# Altium integrated library ALTIUM-WE-PD-rev18b.IntLib: 278 symbols (part 2 of 4)
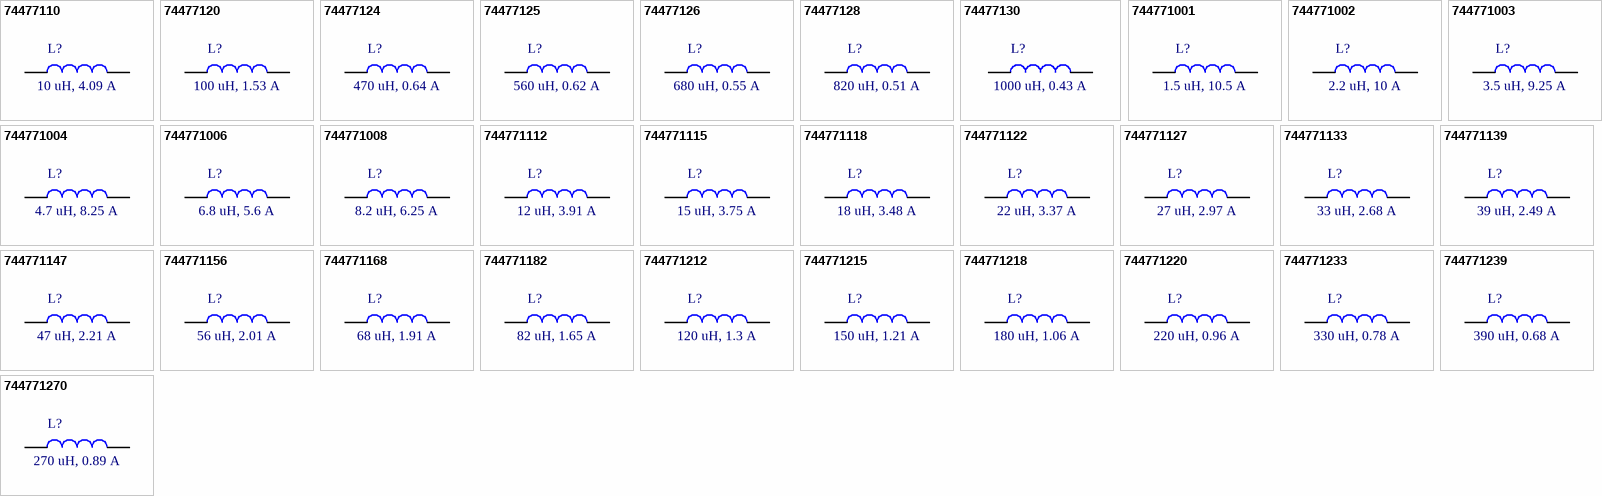
[diagram p14: symbols 74477110 to 744771270]

## 744771133
designator L?, comment 33 uH, 2.68 A
WE-PD SMT Shielded Power Inductor, size 1260, 33 uH, 2.68 A; Part Number: 744771133; Rated Current: 2.68 A; Inductance: 33 uH; DC Resistance max.: 0.057 Ohm; Self Resonant Frequency: 11 MHz; ComponentLink1Description: Manufacturer; ComponentLink1URL: http://www.we-online.de; ComponentLink2Description: Datasheet; ComponentLink2URL: https://katalog.we-online.de/pbs/datasheet/744771133.pdf; Published Date: September 2018; Publisher: Wurth Elektronik; Size: 1260; Operating Temperature: -40 to 125 degC; Mounting Technology: SMT; Packaging: Tape and Reel
footprint WE-PD_1260_Metal base
pins: 1, 2

## 744771139
designator L?, comment 39 uH, 2.49 A
WE-PD SMT Shielded Power Inductor, size 1260, 39 uH, 2.49 A; Part Number: 744771139; Rated Current: 2.49 A; Inductance: 39 uH; DC Resistance max.: 0.068 Ohm; Self Resonant Frequency: 10 MHz; ComponentLink1Description: Manufacturer; ComponentLink1URL: http://www.we-online.de; ComponentLink2Description: Datasheet; ComponentLink2URL: https://katalog.we-online.de/pbs/datasheet/744771139.pdf; Published Date: September 2018; Publisher: Wurth Elektronik; Size: 1260; Operating Temperature: -40 to 125 degC; Mounting Technology: SMT; Packaging: Tape and Reel
footprint WE-PD_1260_Metal base
pins: 1, 2

## 744771147
designator L?, comment 47 uH, 2.21 A
WE-PD SMT Shielded Power Inductor, size 1260, 47 uH, 2.21 A; Part Number: 744771147; Rated Current: 2.21 A; Inductance: 47 uH; DC Resistance max.: 0.075 Ohm; Self Resonant Frequency: 9.2 MHz; ComponentLink1Description: Manufacturer; ComponentLink1URL: http://www.we-online.de; ComponentLink2Description: Datasheet; ComponentLink2URL: https://katalog.we-online.de/pbs/datasheet/744771147.pdf; Published Date: September 2018; Publisher: Wurth Elektronik; Size: 1260; Operating Temperature: -40 to 125 degC; Mounting Technology: SMT; Packaging: Tape and Reel
footprint WE-PD_1260_Metal base
pins: 1, 2

## 744771156
designator L?, comment 56 uH, 2.01 A
WE-PD SMT Shielded Power Inductor, size 1260, 56 uH, 2.01 A; Part Number: 744771156; Rated Current: 2.01 A; Inductance: 56 uH; DC Resistance max.: 0.11 Ohm; Self Resonant Frequency: 8 MHz; ComponentLink1Description: Manufacturer; ComponentLink1URL: http://www.we-online.de; ComponentLink2Description: Datasheet; ComponentLink2URL: https://katalog.we-online.de/pbs/datasheet/744771156.pdf; Published Date: September 2018; Publisher: Wurth Elektronik; Size: 1260; Operating Temperature: -40 to 125 degC; Mounting Technology: SMT; Packaging: Tape and Reel
footprint WE-PD_1260_Metal base
pins: 1, 2

## 744771168
designator L?, comment 68 uH, 1.91 A
WE-PD SMT Shielded Power Inductor, size 1260, 68 uH, 1.91 A; Part Number: 744771168; Rated Current: 1.91 A; Inductance: 68 uH; DC Resistance max.: 0.12 Ohm; Self Resonant Frequency: 7.6 MHz; ComponentLink1Description: Manufacturer; ComponentLink1URL: http://www.we-online.de; ComponentLink2Description: Datasheet; ComponentLink2URL: https://katalog.we-online.de/pbs/datasheet/744771168.pdf; Published Date: September 2018; Publisher: Wurth Elektronik; Size: 1260; Operating Temperature: -40 to 125 degC; Mounting Technology: SMT; Packaging: Tape and Reel
footprint WE-PD_1260_Metal base
pins: 1, 2

## 744771182
designator L?, comment 82 uH, 1.65 A
WE-PD SMT Shielded Power Inductor, size 1260, 82 uH, 1.65 A; Part Number: 744771182; Rated Current: 1.65 A; Inductance: 82 uH; DC Resistance max.: 0.14 Ohm; Self Resonant Frequency: 7.2 MHz; ComponentLink1Description: Manufacturer; ComponentLink1URL: http://www.we-online.de; ComponentLink2Description: Datasheet; ComponentLink2URL: https://katalog.we-online.de/pbs/datasheet/744771182.pdf; Published Date: September 2018; Publisher: Wurth Elektronik; Size: 1260; Operating Temperature: -40 to 125 degC; Mounting Technology: SMT; Packaging: Tape and Reel
footprint WE-PD_1260_Metal base
pins: 1, 2

## 744771212
designator L?, comment 120 uH, 1.3 A
WE-PD SMT Shielded Power Inductor, size 1260, 120 uH, 1.3 A; Part Number: 744771212; Rated Current: 1.3 A; Inductance: 120 uH; DC Resistance max.: 0.17 Ohm; Self Resonant Frequency: 5.2 MHz; ComponentLink1Description: Manufacturer; ComponentLink1URL: http://www.we-online.de; ComponentLink2Description: Datasheet; ComponentLink2URL: https://katalog.we-online.de/pbs/datasheet/744771212.pdf; Published Date: September 2018; Publisher: Wurth Elektronik; Size: 1260; Operating Temperature: -40 to 125 degC; Mounting Technology: SMT; Packaging: Tape and Reel
footprint WE-PD_1260_Metal base
pins: 1, 2

## 744771215
designator L?, comment 150 uH, 1.21 A
WE-PD SMT Shielded Power Inductor, size 1260, 150 uH, 1.21 A; Part Number: 744771215; Rated Current: 1.21 A; Inductance: 150 uH; DC Resistance max.: 0.23 Ohm; Self Resonant Frequency: 4.4 MHz; ComponentLink1Description: Manufacturer; ComponentLink1URL: http://www.we-online.de; ComponentLink2Description: Datasheet; ComponentLink2URL: https://katalog.we-online.de/pbs/datasheet/744771215.pdf; Published Date: September 2018; Publisher: Wurth Elektronik; Size: 1260; Operating Temperature: -40 to 125 degC; Mounting Technology: SMT; Packaging: Tape and Reel
footprint WE-PD_1260_Metal base
pins: 1, 2

## 744771218
designator L?, comment 180 uH, 1.06 A
WE-PD SMT Shielded Power Inductor, size 1260, 180 uH, 1.06 A; Part Number: 744771218; Rated Current: 1.06 A; Inductance: 180 uH; DC Resistance max.: 0.29 Ohm; Self Resonant Frequency: 4.1 MHz; ComponentLink1Description: Manufacturer; ComponentLink1URL: http://www.we-online.de; ComponentLink2Description: Datasheet; ComponentLink2URL: https://katalog.we-online.de/pbs/datasheet/744771218.pdf; Published Date: September 2018; Publisher: Wurth Elektronik; Size: 1260; Operating Temperature: -40 to 125 degC; Mounting Technology: SMT; Packaging: Tape and Reel
footprint WE-PD_1260_Metal base
pins: 1, 2

## 744771220
designator L?, comment 220 uH, 0.96 A
WE-PD SMT Shielded Power Inductor, size 1260, 220 uH, 0.96 A; Part Number: 744771220; Rated Current: 0.96 A; Inductance: 220 uH; DC Resistance max.: 0.4 Ohm; Self Resonant Frequency: 3.8 MHz; ComponentLink1Description: Manufacturer; ComponentLink1URL: http://www.we-online.de; ComponentLink2Description: Datasheet; ComponentLink2URL: https://katalog.we-online.de/pbs/datasheet/744771220.pdf; Published Date: September 2018; Publisher: Wurth Elektronik; Size: 1260; Operating Temperature: -40 to 125 degC; Mounting Technology: SMT; Packaging: Tape and Reel
footprint WE-PD_1260_Metal base
pins: 1, 2

## 744771233
designator L?, comment 330 uH, 0.78 A
WE-PD SMT Shielded Power Inductor, size 1260, 330 uH, 0.78 A; Part Number: 744771233; Rated Current: 0.78 A; Inductance: 330 uH; DC Resistance max.: 0.51 Ohm; Self Resonant Frequency: 3 MHz; ComponentLink1Description: Manufacturer; ComponentLink1URL: http://www.we-online.de; ComponentLink2Description: Datasheet; ComponentLink2URL: https://katalog.we-online.de/pbs/datasheet/744771233.pdf; Published Date: September 2018; Publisher: Wurth Elektronik; Size: 1260; Operating Temperature: -40 to 125 degC; Mounting Technology: SMT; Packaging: Tape and Reel
footprint WE-PD_1260_Metal base
pins: 1, 2

## 744771239
designator L?, comment 390 uH, 0.68 A
WE-PD SMT Shielded Power Inductor, size 1260, 390 uH, 0.68 A; Part Number: 744771239; Rated Current: 0.68 A; Inductance: 390 uH; DC Resistance max.: 0.69 Ohm; Self Resonant Frequency: 2.8 MHz; ComponentLink1Description: Manufacturer; ComponentLink1URL: http://www.we-online.de; ComponentLink2Description: Datasheet; ComponentLink2URL: https://katalog.we-online.de/pbs/datasheet/744771239.pdf; Published Date: September 2018; Publisher: Wurth Elektronik; Size: 1260; Operating Temperature: -40 to 125 degC; Mounting Technology: SMT; Packaging: Tape and Reel
footprint WE-PD_1260_Metal base
pins: 1, 2

## 744771270
designator L?, comment 270 uH, 0.89 A
WE-PD SMT Shielded Power Inductor, size 1260, 270 uH, 0.89 A; Part Number: 744771270; Rated Current: 0.89 A; Inductance: 270 uH; DC Resistance max.: 0.46 Ohm; Self Resonant Frequency: 3.4 MHz; ComponentLink1Description: Manufacturer; ComponentLink1URL: http://www.we-online.de; ComponentLink2Description: Datasheet; ComponentLink2URL: https://katalog.we-online.de/pbs/datasheet/744771270.pdf; Published Date: September 2018; Publisher: Wurth Elektronik; Size: 1260; Operating Temperature: -40 to 125 degC; Mounting Technology: SMT; Packaging: Tape and Reel
footprint WE-PD_1260_Metal base
pins: 1, 2


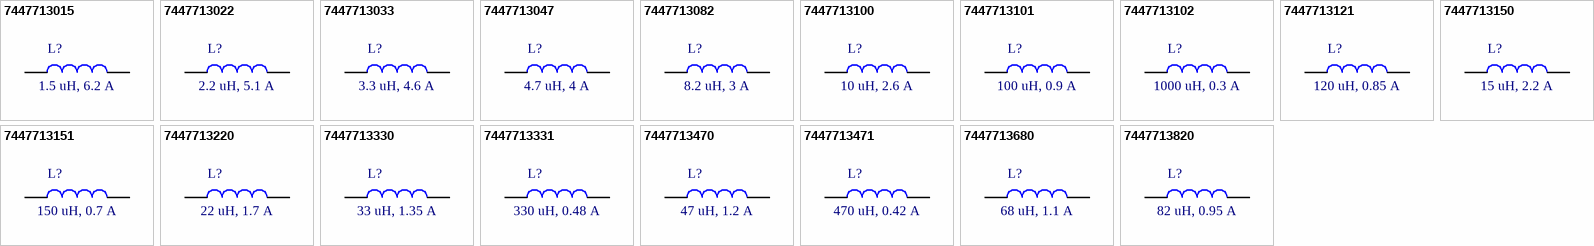
[diagram p4: symbols 7447713015 to 7447713820]

## 7447713015
designator L?, comment 1.5 uH, 6.2 A
WE-PD SMT Shielded Power Inductor, size 1030, 1.5 uH, 6.2 A; Part Number: 7447713015; Rated Current: 6.2 A; Inductance: 1.5 uH; DC Resistance max.: 0.016 Ohm; Self Resonant Frequency: 75 MHz; ComponentLink1Description: Manufacturer; ComponentLink1URL: http://www.we-online.de; ComponentLink2Description: Datasheet; ComponentLink2URL: https://katalog.we-online.de/pbs/datasheet/7447713015.pdf; Published Date: September 2018; Publisher: Wurth Elektronik; Size: 1030; Operating Temperature: -40 to 125 degC; Mounting Technology: SMT; Packaging: Tape and Reel
footprint WE-PD_1030_Metal base
pins: 1, 2

## 7447713022
designator L?, comment 2.2 uH, 5.1 A
WE-PD SMT Shielded Power Inductor, size 1030, 2.2 uH, 5.1 A; Part Number: 7447713022; Rated Current: 5.1 A; Inductance: 2.2 uH; DC Resistance max.: 0.02 Ohm; Self Resonant Frequency: 71 MHz; ComponentLink1Description: Manufacturer; ComponentLink1URL: http://www.we-online.de; ComponentLink2Description: Datasheet; ComponentLink2URL: https://katalog.we-online.de/pbs/datasheet/7447713022.pdf; Published Date: September 2018; Publisher: Wurth Elektronik; Size: 1030; Operating Temperature: -40 to 125 degC; Mounting Technology: SMT; Packaging: Tape and Reel
footprint WE-PD_1030_Metal base
pins: 1, 2

## 7447713033
designator L?, comment 3.3 uH, 4.6 A
WE-PD SMT Shielded Power Inductor, size 1030, 3.3 uH, 4.6 A; Part Number: 7447713033; Rated Current: 4.6 A; Inductance: 3.3 uH; DC Resistance max.: 0.024 Ohm; Self Resonant Frequency: 50 MHz; ComponentLink1Description: Manufacturer; ComponentLink1URL: http://www.we-online.de; ComponentLink2Description: Datasheet; ComponentLink2URL: https://katalog.we-online.de/pbs/datasheet/7447713033.pdf; Published Date: September 2018; Publisher: Wurth Elektronik; Size: 1030; Operating Temperature: -40 to 125 degC; Mounting Technology: SMT; Packaging: Tape and Reel
footprint WE-PD_1030_Metal base
pins: 1, 2

## 7447713047
designator L?, comment 4.7 uH, 4 A
WE-PD SMT Shielded Power Inductor, size 1030, 4.7 uH, 4 A; Part Number: 7447713047; Rated Current: 4 A; Inductance: 4.7 uH; DC Resistance max.: 0.031 Ohm; Self Resonant Frequency: 42 MHz; ComponentLink1Description: Manufacturer; ComponentLink1URL: http://www.we-online.de; ComponentLink2Description: Datasheet; ComponentLink2URL: https://katalog.we-online.de/pbs/datasheet/7447713047.pdf; Published Date: September 2018; Publisher: Wurth Elektronik; Size: 1030; Operating Temperature: -40 to 125 degC; Mounting Technology: SMT; Packaging: Tape and Reel
footprint WE-PD_1030_Metal base
pins: 1, 2

## 7447713082
designator L?, comment 8.2 uH, 3 A
WE-PD SMT Shielded Power Inductor, size 1030, 8.2 uH, 3 A; Part Number: 7447713082; Rated Current: 3 A; Inductance: 8.2 uH; DC Resistance max.: 0.049 Ohm; Self Resonant Frequency: 30 MHz; ComponentLink1Description: Manufacturer; ComponentLink1URL: http://www.we-online.de; ComponentLink2Description: Datasheet; ComponentLink2URL: https://katalog.we-online.de/pbs/datasheet/7447713082.pdf; Published Date: September 2018; Publisher: Wurth Elektronik; Size: 1030; Operating Temperature: -40 to 125 degC; Mounting Technology: SMT; Packaging: Tape and Reel
footprint WE-PD_1030_Metal base
pins: 1, 2

## 7447713100
designator L?, comment 10 uH, 2.6 A
WE-PD SMT Shielded Power Inductor, size 1030, 10 uH, 2.6 A; Part Number: 7447713100; Rated Current: 2.6 A; Inductance: 10 uH; DC Resistance max.: 0.062 Ohm; Self Resonant Frequency: 25 MHz; ComponentLink1Description: Manufacturer; ComponentLink1URL: http://www.we-online.de; ComponentLink2Description: Datasheet; ComponentLink2URL: https://katalog.we-online.de/pbs/datasheet/7447713100.pdf; Published Date: September 2018; Publisher: Wurth Elektronik; Size: 1030; Operating Temperature: -40 to 125 degC; Mounting Technology: SMT; Packaging: Tape and Reel
footprint WE-PD_1030_Metal base
pins: 1, 2

## 7447713101
designator L?, comment 100 uH, 0.9 A
WE-PD SMT Shielded Power Inductor, size 1030, 100 uH, 0.9 A; Part Number: 7447713101; Rated Current: 0.9 A; Inductance: 100 uH; DC Resistance max.: 0.478 Ohm; Self Resonant Frequency: 7.7 MHz; ComponentLink1Description: Manufacturer; ComponentLink1URL: http://www.we-online.de; ComponentLink2Description: Datasheet; ComponentLink2URL: https://katalog.we-online.de/pbs/datasheet/7447713101.pdf; Published Date: September 2018; Publisher: Wurth Elektronik; Size: 1030; Operating Temperature: -40 to 125 degC; Mounting Technology: SMT; Packaging: Tape and Reel
footprint WE-PD_1030_Metal base
pins: 1, 2

## 7447713102
designator L?, comment 1000 uH, 0.3 A
WE-PD SMT Shielded Power Inductor, size 1030, 1000 uH, 0.3 A; Part Number: 7447713102; Rated Current: 0.3 A; Inductance: 1000 uH; DC Resistance max.: 4.6 Ohm; Self Resonant Frequency: 2.3 MHz; ComponentLink1Description: Manufacturer; ComponentLink1URL: http://www.we-online.de; ComponentLink2Description: Datasheet; ComponentLink2URL: https://katalog.we-online.de/pbs/datasheet/7447713102.pdf; Published Date: September 2018; Publisher: Wurth Elektronik; Size: 1030; Operating Temperature: -40 to 125 degC; Mounting Technology: SMT; Packaging: Tape and Reel
footprint WE-PD_1030_Metal base
pins: 1, 2

## 7447713121
designator L?, comment 120 uH, 0.85 A
WE-PD SMT Shielded Power Inductor, size 1030, 120 uH, 0.85 A; Part Number: 7447713121; Rated Current: 0.85 A; Inductance: 120 uH; DC Resistance max.: 0.598 Ohm; Self Resonant Frequency: 7 MHz; ComponentLink1Description: Manufacturer; ComponentLink1URL: http://www.we-online.de; ComponentLink2Description: Datasheet; ComponentLink2URL: https://katalog.we-online.de/pbs/datasheet/7447713121.pdf; Published Date: September 2018; Publisher: Wurth Elektronik; Size: 1030; Operating Temperature: -40 to 125 degC; Mounting Technology: SMT; Packaging: Tape and Reel
footprint WE-PD_1030_Metal base
pins: 1, 2

## 7447713150
designator L?, comment 15 uH, 2.2 A
WE-PD SMT Shielded Power Inductor, size 1030, 15 uH, 2.2 A; Part Number: 7447713150; Rated Current: 2.2 A; Inductance: 15 uH; DC Resistance max.: 0.089 Ohm; Self Resonant Frequency: 19.5 MHz; ComponentLink1Description: Manufacturer; ComponentLink1URL: http://www.we-online.de; ComponentLink2Description: Datasheet; ComponentLink2URL: https://katalog.we-online.de/pbs/datasheet/7447713150.pdf; Published Date: September 2018; Publisher: Wurth Elektronik; Size: 1030; Operating Temperature: -40 to 125 degC; Mounting Technology: SMT; Packaging: Tape and Reel
footprint WE-PD_1030_Metal base
pins: 1, 2

## 7447713151
designator L?, comment 150 uH, 0.7 A
WE-PD SMT Shielded Power Inductor, size 1030, 150 uH, 0.7 A; Part Number: 7447713151; Rated Current: 0.7 A; Inductance: 150 uH; DC Resistance max.: 0.684 Ohm; Self Resonant Frequency: 6.1 MHz; ComponentLink1Description: Manufacturer; ComponentLink1URL: http://www.we-online.de; ComponentLink2Description: Datasheet; ComponentLink2URL: https://katalog.we-online.de/pbs/datasheet/7447713151.pdf; Published Date: September 2018; Publisher: Wurth Elektronik; Size: 1030; Operating Temperature: -40 to 125 degC; Mounting Technology: SMT; Packaging: Tape and Reel
footprint WE-PD_1030_Metal base
pins: 1, 2

## 7447713220
designator L?, comment 22 uH, 1.7 A
WE-PD SMT Shielded Power Inductor, size 1030, 22 uH, 1.7 A; Part Number: 7447713220; Rated Current: 1.7 A; Inductance: 22 uH; DC Resistance max.: 0.133 Ohm; Self Resonant Frequency: 17.5 MHz; ComponentLink1Description: Manufacturer; ComponentLink1URL: http://www.we-online.de; ComponentLink2Description: Datasheet; ComponentLink2URL: https://katalog.we-online.de/pbs/datasheet/7447713220.pdf; Published Date: September 2018; Publisher: Wurth Elektronik; Size: 1030; Operating Temperature: -40 to 125 degC; Mounting Technology: SMT; Packaging: Tape and Reel
footprint WE-PD_1030_Metal base
pins: 1, 2

## 7447713330
designator L?, comment 33 uH, 1.35 A
WE-PD SMT Shielded Power Inductor, size 1030, 33 uH, 1.35 A; Part Number: 7447713330; Rated Current: 1.35 A; Inductance: 33 uH; DC Resistance max.: 0.204 Ohm; Self Resonant Frequency: 13 MHz; ComponentLink1Description: Manufacturer; ComponentLink1URL: http://www.we-online.de; ComponentLink2Description: Datasheet; ComponentLink2URL: https://katalog.we-online.de/pbs/datasheet/7447713330.pdf; Published Date: September 2018; Publisher: Wurth Elektronik; Size: 1030; Operating Temperature: -40 to 125 degC; Mounting Technology: SMT; Packaging: Tape and Reel
footprint WE-PD_1030_Metal base
pins: 1, 2

## 7447713331
designator L?, comment 330 uH, 0.48 A
WE-PD SMT Shielded Power Inductor, size 1030, 330 uH, 0.48 A; Part Number: 7447713331; Rated Current: 0.48 A; Inductance: 330 uH; DC Resistance max.: 1.5 Ohm; Self Resonant Frequency: 4.3 MHz; ComponentLink1Description: Manufacturer; ComponentLink1URL: http://www.we-online.de; ComponentLink2Description: Datasheet; ComponentLink2URL: https://katalog.we-online.de/pbs/datasheet/7447713331.pdf; Published Date: September 2018; Publisher: Wurth Elektronik; Size: 1030; Operating Temperature: -40 to 125 degC; Mounting Technology: SMT; Packaging: Tape and Reel
footprint WE-PD_1030_Metal base
pins: 1, 2

## 7447713470
designator L?, comment 47 uH, 1.2 A
WE-PD SMT Shielded Power Inductor, size 1030, 47 uH, 1.2 A; Part Number: 7447713470; Rated Current: 1.2 A; Inductance: 47 uH; DC Resistance max.: 0.248 Ohm; Self Resonant Frequency: 11.4 MHz; ComponentLink1Description: Manufacturer; ComponentLink1URL: http://www.we-online.de; ComponentLink2Description: Datasheet; ComponentLink2URL: https://katalog.we-online.de/pbs/datasheet/7447713470.pdf; Published Date: September 2018; Publisher: Wurth Elektronik; Size: 1030; Operating Temperature: -40 to 125 degC; Mounting Technology: SMT; Packaging: Tape and Reel
footprint WE-PD_1030_Metal base
pins: 1, 2

## 7447713471
designator L?, comment 470 uH, 0.42 A
WE-PD SMT Shielded Power Inductor, size 1030, 470 uH, 0.42 A; Part Number: 7447713471; Rated Current: 0.42 A; Inductance: 470 uH; DC Resistance max.: 2.2 Ohm; Self Resonant Frequency: 3.4 MHz; ComponentLink1Description: Manufacturer; ComponentLink1URL: http://www.we-online.de; ComponentLink2Description: Datasheet; ComponentLink2URL: https://katalog.we-online.de/pbs/datasheet/7447713471.pdf; Published Date: September 2018; Publisher: Wurth Elektronik; Size: 1030; Operating Temperature: -40 to 125 degC; Mounting Technology: SMT; Packaging: Tape and Reel
footprint WE-PD_1030_Metal base
pins: 1, 2

## 7447713680
designator L?, comment 68 uH, 1.1 A
WE-PD SMT Shielded Power Inductor, size 1030, 68 uH, 1.1 A; Part Number: 7447713680; Rated Current: 1.1 A; Inductance: 68 uH; DC Resistance max.: 0.33 Ohm; Self Resonant Frequency: 9.4 MHz; ComponentLink1Description: Manufacturer; ComponentLink1URL: http://www.we-online.de; ComponentLink2Description: Datasheet; ComponentLink2URL: https://katalog.we-online.de/pbs/datasheet/7447713680.pdf; Published Date: September 2018; Publisher: Wurth Elektronik; Size: 1030; Operating Temperature: -40 to 125 degC; Mounting Technology: SMT; Packaging: Tape and Reel
footprint WE-PD_1030_Metal base
pins: 1, 2

## 7447713820
designator L?, comment 82 uH, 0.95 A
WE-PD SMT Shielded Power Inductor, size 1030, 82 uH, 0.95 A; Part Number: 7447713820; Rated Current: 0.95 A; Inductance: 82 uH; DC Resistance max.: 0.419 Ohm; Self Resonant Frequency: 8.8 MHz; ComponentLink1Description: Manufacturer; ComponentLink1URL: http://www.we-online.de; ComponentLink2Description: Datasheet; ComponentLink2URL: https://katalog.we-online.de/pbs/datasheet/7447713820.pdf; Published Date: September 2018; Publisher: Wurth Elektronik; Size: 1030; Operating Temperature: -40 to 125 degC; Mounting Technology: SMT; Packaging: Tape and Reel
footprint WE-PD_1030_Metal base
pins: 1, 2


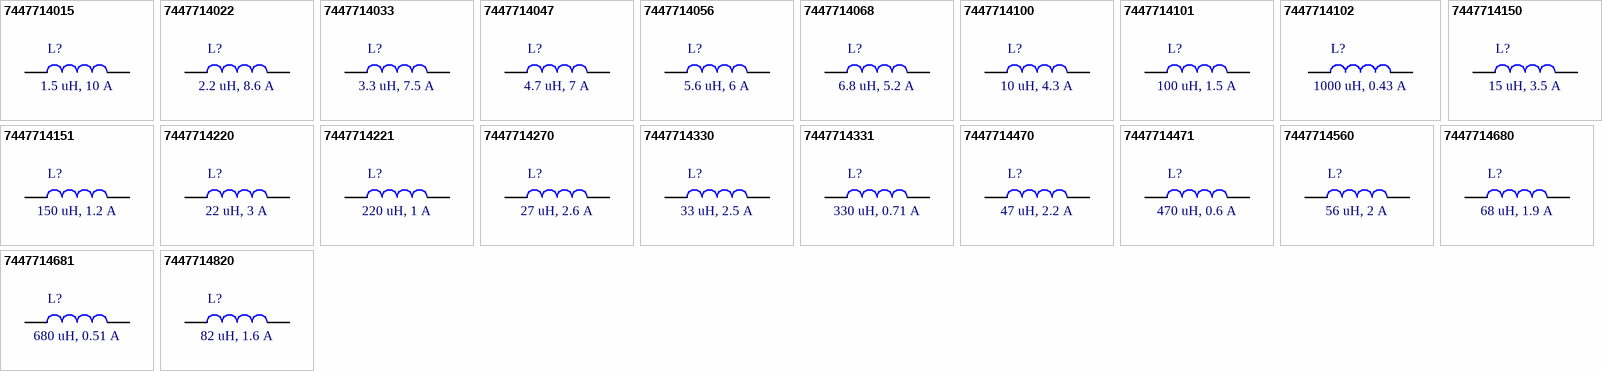
[diagram p5: symbols 7447714015 to 7447714820]

## 7447714015
designator L?, comment 1.5 uH, 10 A
WE-PD SMT Shielded Power Inductor, size 1050, 1.5 uH, 10 A; Part Number: 7447714015; Rated Current: 10 A; Inductance: 1.5 uH; DC Resistance max.: 0.0066 Ohm; Self Resonant Frequency: 69 MHz; ComponentLink1Description: Manufacturer; ComponentLink1URL: http://www.we-online.de; ComponentLink2Description: Datasheet; ComponentLink2URL: https://katalog.we-online.de/pbs/datasheet/7447714015.pdf; Published Date: September 2018; Publisher: Wurth Elektronik; Size: 1050; Operating Temperature: -40 to 125 degC; Mounting Technology: SMT; Packaging: Tape and Reel
footprint WE-PD_1050_Metal base
pins: 1, 2

## 7447714022
designator L?, comment 2.2 uH, 8.6 A
WE-PD SMT Shielded Power Inductor, size 1050, 2.2 uH, 8.6 A; Part Number: 7447714022; Rated Current: 8.6 A; Inductance: 2.2 uH; DC Resistance max.: 0.008 Ohm; Self Resonant Frequency: 53 MHz; ComponentLink1Description: Manufacturer; ComponentLink1URL: http://www.we-online.de; ComponentLink2Description: Datasheet; ComponentLink2URL: https://katalog.we-online.de/pbs/datasheet/7447714022.pdf; Published Date: September 2018; Publisher: Wurth Elektronik; Size: 1050; Operating Temperature: -40 to 125 degC; Mounting Technology: SMT; Packaging: Tape and Reel
footprint WE-PD_1050_Metal base
pins: 1, 2

## 7447714033
designator L?, comment 3.3 uH, 7.5 A
WE-PD SMT Shielded Power Inductor, size 1050, 3.3 uH, 7.5 A; Part Number: 7447714033; Rated Current: 7.5 A; Inductance: 3.3 uH; DC Resistance max.: 0.0105 Ohm; Self Resonant Frequency: 42 MHz; ComponentLink1Description: Manufacturer; ComponentLink1URL: http://www.we-online.de; ComponentLink2Description: Datasheet; ComponentLink2URL: https://katalog.we-online.de/pbs/datasheet/7447714033.pdf; Published Date: September 2018; Publisher: Wurth Elektronik; Size: 1050; Operating Temperature: -40 to 125 degC; Mounting Technology: SMT; Packaging: Tape and Reel
footprint WE-PD_1050_Metal base
pins: 1, 2

## 7447714047
designator L?, comment 4.7 uH, 7 A
WE-PD SMT Shielded Power Inductor, size 1050, 4.7 uH, 7 A; Part Number: 7447714047; Rated Current: 7 A; Inductance: 4.7 uH; DC Resistance max.: 0.0124 Ohm; Self Resonant Frequency: 34 MHz; ComponentLink1Description: Manufacturer; ComponentLink1URL: http://www.we-online.de; ComponentLink2Description: Datasheet; ComponentLink2URL: https://katalog.we-online.de/pbs/datasheet/7447714047.pdf; Published Date: September 2018; Publisher: Wurth Elektronik; Size: 1050; Operating Temperature: -40 to 125 degC; Mounting Technology: SMT; Packaging: Tape and Reel
footprint WE-PD_1050_Metal base
pins: 1, 2

## 7447714056
designator L?, comment 5.6 uH, 6 A
WE-PD SMT Shielded Power Inductor, size 1050, 5.6 uH, 6 A; Part Number: 7447714056; Rated Current: 6 A; Inductance: 5.6 uH; DC Resistance max.: 0.0144 Ohm; Self Resonant Frequency: 28 MHz; ComponentLink1Description: Manufacturer; ComponentLink1URL: http://www.we-online.de; ComponentLink2Description: Datasheet; ComponentLink2URL: https://katalog.we-online.de/pbs/datasheet/7447714056.pdf; Published Date: September 2018; Publisher: Wurth Elektronik; Size: 1050; Operating Temperature: -40 to 125 degC; Mounting Technology: SMT; Packaging: Tape and Reel
footprint WE-PD_1050_Metal base
pins: 1, 2

## 7447714068
designator L?, comment 6.8 uH, 5.2 A
WE-PD SMT Shielded Power Inductor, size 1050, 6.8 uH, 5.2 A; Part Number: 7447714068; Rated Current: 5.2 A; Inductance: 6.8 uH; DC Resistance max.: 0.022 Ohm; Self Resonant Frequency: 23.5 MHz; ComponentLink1Description: Manufacturer; ComponentLink1URL: http://www.we-online.de; ComponentLink2Description: Datasheet; ComponentLink2URL: https://katalog.we-online.de/pbs/datasheet/7447714068.pdf; Published Date: September 2018; Publisher: Wurth Elektronik; Size: 1050; Operating Temperature: -40 to 125 degC; Mounting Technology: SMT; Packaging: Tape and Reel
footprint WE-PD_1050_Metal base
pins: 1, 2

## 7447714100
designator L?, comment 10 uH, 4.3 A
WE-PD SMT Shielded Power Inductor, size 1050, 10 uH, 4.3 A; Part Number: 7447714100; Rated Current: 4.3 A; Inductance: 10 uH; DC Resistance max.: 0.027 Ohm; Self Resonant Frequency: 20.5 MHz; ComponentLink1Description: Manufacturer; ComponentLink1URL: http://www.we-online.de; ComponentLink2Description: Datasheet; ComponentLink2URL: https://katalog.we-online.de/pbs/datasheet/7447714100.pdf; Published Date: September 2018; Publisher: Wurth Elektronik; Size: 1050; Operating Temperature: -40 to 125 degC; Mounting Technology: SMT; Packaging: Tape and Reel
footprint WE-PD_1050_Metal base
pins: 1, 2

## 7447714101
designator L?, comment 100 uH, 1.5 A
WE-PD SMT Shielded Power Inductor, size 1050, 100 uH, 1.5 A; Part Number: 7447714101; Rated Current: 1.5 A; Inductance: 100 uH; DC Resistance max.: 0.198 Ohm; Self Resonant Frequency: 5.9 MHz; ComponentLink1Description: Manufacturer; ComponentLink1URL: http://www.we-online.de; ComponentLink2Description: Datasheet; ComponentLink2URL: https://katalog.we-online.de/pbs/datasheet/7447714101.pdf; Published Date: September 2018; Publisher: Wurth Elektronik; Size: 1050; Operating Temperature: -40 to 125 degC; Mounting Technology: SMT; Packaging: Tape and Reel
footprint WE-PD_1050_Metal base
pins: 1, 2

## 7447714102
designator L?, comment 1000 uH, 0.43 A
WE-PD SMT Shielded Power Inductor, size 1050, 1000 uH, 0.43 A; Part Number: 7447714102; Rated Current: 0.43 A; Inductance: 1000 uH; DC Resistance max.: 2.05 Ohm; Self Resonant Frequency: 1.7 MHz; ComponentLink1Description: Manufacturer; ComponentLink1URL: http://www.we-online.de; ComponentLink2Description: Datasheet; ComponentLink2URL: https://katalog.we-online.de/pbs/datasheet/7447714102.pdf; Published Date: September 2018; Publisher: Wurth Elektronik; Size: 1050; Operating Temperature: -40 to 125 degC; Mounting Technology: SMT; Packaging: Tape and Reel
footprint WE-PD_1050_Metal base
pins: 1, 2

## 7447714150
designator L?, comment 15 uH, 3.5 A
WE-PD SMT Shielded Power Inductor, size 1050, 15 uH, 3.5 A; Part Number: 7447714150; Rated Current: 3.5 A; Inductance: 15 uH; DC Resistance max.: 0.043 Ohm; Self Resonant Frequency: 16.8 MHz; ComponentLink1Description: Manufacturer; ComponentLink1URL: http://www.we-online.de; ComponentLink2Description: Datasheet; ComponentLink2URL: https://katalog.we-online.de/pbs/datasheet/7447714150.pdf; Published Date: September 2018; Publisher: Wurth Elektronik; Size: 1050; Operating Temperature: -40 to 125 degC; Mounting Technology: SMT; Packaging: Tape and Reel
footprint WE-PD_1050_Metal base
pins: 1, 2

## 7447714151
designator L?, comment 150 uH, 1.2 A
WE-PD SMT Shielded Power Inductor, size 1050, 150 uH, 1.2 A; Part Number: 7447714151; Rated Current: 1.2 A; Inductance: 150 uH; DC Resistance max.: 0.3 Ohm; Self Resonant Frequency: 4.9 MHz; ComponentLink1Description: Manufacturer; ComponentLink1URL: http://www.we-online.de; ComponentLink2Description: Datasheet; ComponentLink2URL: https://katalog.we-online.de/pbs/datasheet/7447714151.pdf; Published Date: September 2018; Publisher: Wurth Elektronik; Size: 1050; Operating Temperature: -40 to 125 degC; Mounting Technology: SMT; Packaging: Tape and Reel
footprint WE-PD_1050_Metal base
pins: 1, 2

## 7447714220
designator L?, comment 22 uH, 3 A
WE-PD SMT Shielded Power Inductor, size 1050, 22 uH, 3 A; Part Number: 7447714220; Rated Current: 3 A; Inductance: 22 uH; DC Resistance max.: 0.05 Ohm; Self Resonant Frequency: 14.5 MHz; ComponentLink1Description: Manufacturer; ComponentLink1URL: http://www.we-online.de; ComponentLink2Description: Datasheet; ComponentLink2URL: https://katalog.we-online.de/pbs/datasheet/7447714220.pdf; Published Date: September 2018; Publisher: Wurth Elektronik; Size: 1050; Operating Temperature: -40 to 125 degC; Mounting Technology: SMT; Packaging: Tape and Reel
footprint WE-PD_1050_Metal base
pins: 1, 2

## 7447714221
designator L?, comment 220 uH, 1 A
WE-PD SMT Shielded Power Inductor, size 1050, 220 uH, 1 A; Part Number: 7447714221; Rated Current: 1 A; Inductance: 220 uH; DC Resistance max.: 0.439 Ohm; Self Resonant Frequency: 4.3 MHz; ComponentLink1Description: Manufacturer; ComponentLink1URL: http://www.we-online.de; ComponentLink2Description: Datasheet; ComponentLink2URL: https://katalog.we-online.de/pbs/datasheet/7447714221.pdf; Published Date: September 2018; Publisher: Wurth Elektronik; Size: 1050; Operating Temperature: -40 to 125 degC; Mounting Technology: SMT; Packaging: Tape and Reel
footprint WE-PD_1050_Metal base
pins: 1, 2

## 7447714270
designator L?, comment 27 uH, 2.6 A
WE-PD SMT Shielded Power Inductor, size 1050, 27 uH, 2.6 A; Part Number: 7447714270; Rated Current: 2.6 A; Inductance: 27 uH; DC Resistance max.: 0.074 Ohm; Self Resonant Frequency: 14 MHz; ComponentLink1Description: Manufacturer; ComponentLink1URL: http://www.we-online.de; ComponentLink2Description: Datasheet; ComponentLink2URL: https://katalog.we-online.de/pbs/datasheet/7447714270.pdf; Published Date: September 2018; Publisher: Wurth Elektronik; Size: 1050; Operating Temperature: -40 to 125 degC; Mounting Technology: SMT; Packaging: Tape and Reel
footprint WE-PD_1050_Metal base
pins: 1, 2

## 7447714330
designator L?, comment 33 uH, 2.5 A
WE-PD SMT Shielded Power Inductor, size 1050, 33 uH, 2.5 A; Part Number: 7447714330; Rated Current: 2.5 A; Inductance: 33 uH; DC Resistance max.: 0.079 Ohm; Self Resonant Frequency: 11.1 MHz; ComponentLink1Description: Manufacturer; ComponentLink1URL: http://www.we-online.de; ComponentLink2Description: Datasheet; ComponentLink2URL: https://katalog.we-online.de/pbs/datasheet/7447714330.pdf; Published Date: September 2018; Publisher: Wurth Elektronik; Size: 1050; Operating Temperature: -40 to 125 degC; Mounting Technology: SMT; Packaging: Tape and Reel
footprint WE-PD_1050_Metal base
pins: 1, 2

## 7447714331
designator L?, comment 330 uH, 0.71 A
WE-PD SMT Shielded Power Inductor, size 1050, 330 uH, 0.71 A; Part Number: 7447714331; Rated Current: 0.71 A; Inductance: 330 uH; DC Resistance max.: 0.75 Ohm; Self Resonant Frequency: 3.15 MHz; ComponentLink1Description: Manufacturer; ComponentLink1URL: http://www.we-online.de; ComponentLink2Description: Datasheet; ComponentLink2URL: https://katalog.we-online.de/pbs/datasheet/7447714331.pdf; Published Date: September 2018; Publisher: Wurth Elektronik; Size: 1050; Operating Temperature: -40 to 125 degC; Mounting Technology: SMT; Packaging: Tape and Reel
footprint WE-PD_1050_Metal base
pins: 1, 2

## 7447714470
designator L?, comment 47 uH, 2.2 A
WE-PD SMT Shielded Power Inductor, size 1050, 47 uH, 2.2 A; Part Number: 7447714470; Rated Current: 2.2 A; Inductance: 47 uH; DC Resistance max.: 0.099 Ohm; Self Resonant Frequency: 8.8 MHz; ComponentLink1Description: Manufacturer; ComponentLink1URL: http://www.we-online.de; ComponentLink2Description: Datasheet; ComponentLink2URL: https://katalog.we-online.de/pbs/datasheet/7447714470.pdf; Published Date: September 2018; Publisher: Wurth Elektronik; Size: 1050; Operating Temperature: -40 to 125 degC; Mounting Technology: SMT; Packaging: Tape and Reel
footprint WE-PD_1050_Metal base
pins: 1, 2

## 7447714471
designator L?, comment 470 uH, 0.6 A
WE-PD SMT Shielded Power Inductor, size 1050, 470 uH, 0.6 A; Part Number: 7447714471; Rated Current: 0.6 A; Inductance: 470 uH; DC Resistance max.: 1.1 Ohm; Self Resonant Frequency: 2.5 MHz; ComponentLink1Description: Manufacturer; ComponentLink1URL: http://www.we-online.de; ComponentLink2Description: Datasheet; ComponentLink2URL: https://katalog.we-online.de/pbs/datasheet/7447714471.pdf; Published Date: September 2018; Publisher: Wurth Elektronik; Size: 1050; Operating Temperature: -40 to 125 degC; Mounting Technology: SMT; Packaging: Tape and Reel
footprint WE-PD_1050_Metal base
pins: 1, 2

## 7447714560
designator L?, comment 56 uH, 2 A
WE-PD SMT Shielded Power Inductor, size 1050, 56 uH, 2 A; Part Number: 7447714560; Rated Current: 2 A; Inductance: 56 uH; DC Resistance max.: 0.121 Ohm; Self Resonant Frequency: 8.6 MHz; ComponentLink1Description: Manufacturer; ComponentLink1URL: http://www.we-online.de; ComponentLink2Description: Datasheet; ComponentLink2URL: https://katalog.we-online.de/pbs/datasheet/7447714560.pdf; Published Date: September 2018; Publisher: Wurth Elektronik; Size: 1050; Operating Temperature: -40 to 125 degC; Mounting Technology: SMT; Packaging: Tape and Reel
footprint WE-PD_1050_Metal base
pins: 1, 2

## 7447714680
designator L?, comment 68 uH, 1.9 A
WE-PD SMT Shielded Power Inductor, size 1050, 68 uH, 1.9 A; Part Number: 7447714680; Rated Current: 1.9 A; Inductance: 68 uH; DC Resistance max.: 0.132 Ohm; Self Resonant Frequency: 8 MHz; ComponentLink1Description: Manufacturer; ComponentLink1URL: http://www.we-online.de; ComponentLink2Description: Datasheet; ComponentLink2URL: https://katalog.we-online.de/pbs/datasheet/7447714680.pdf; Published Date: September 2018; Publisher: Wurth Elektronik; Size: 1050; Operating Temperature: -40 to 125 degC; Mounting Technology: SMT; Packaging: Tape and Reel
footprint WE-PD_1050_Metal base
pins: 1, 2

## 7447714681
designator L?, comment 680 uH, 0.51 A
WE-PD SMT Shielded Power Inductor, size 1050, 680 uH, 0.51 A; Part Number: 7447714681; Rated Current: 0.51 A; Inductance: 680 uH; DC Resistance max.: 1.22 Ohm; Self Resonant Frequency: 2.05 MHz; ComponentLink1Description: Manufacturer; ComponentLink1URL: http://www.we-online.de; ComponentLink2Description: Datasheet; ComponentLink2URL: https://katalog.we-online.de/pbs/datasheet/7447714681.pdf; Published Date: September 2018; Publisher: Wurth Elektronik; Size: 1050; Operating Temperature: -40 to 125 degC; Mounting Technology: SMT; Packaging: Tape and Reel
footprint WE-PD_1050_Metal base
pins: 1, 2

## 7447714820
designator L?, comment 82 uH, 1.6 A
WE-PD SMT Shielded Power Inductor, size 1050, 82 uH, 1.6 A; Part Number: 7447714820; Rated Current: 1.6 A; Inductance: 82 uH; DC Resistance max.: 0.176 Ohm; Self Resonant Frequency: 6.6 MHz; ComponentLink1Description: Manufacturer; ComponentLink1URL: http://www.we-online.de; ComponentLink2Description: Datasheet; ComponentLink2URL: https://katalog.we-online.de/pbs/datasheet/7447714820.pdf; Published Date: September 2018; Publisher: Wurth Elektronik; Size: 1050; Operating Temperature: -40 to 125 degC; Mounting Technology: SMT; Packaging: Tape and Reel
footprint WE-PD_1050_Metal base
pins: 1, 2


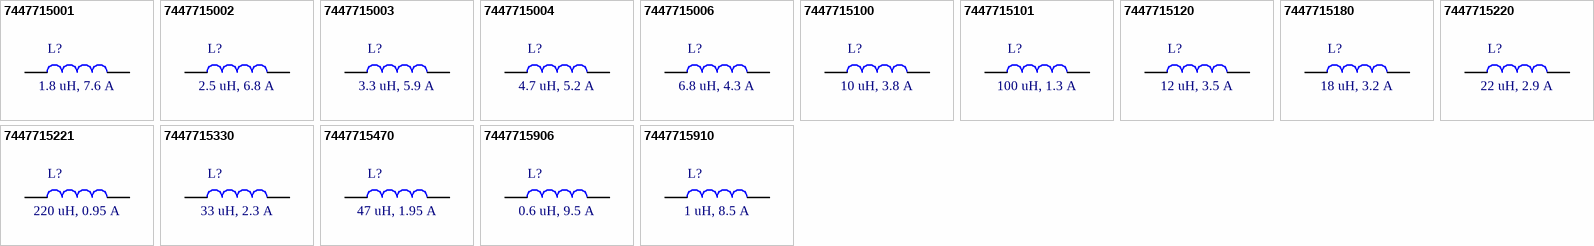
[diagram p6: symbols 7447715001 to 7447715910]

## 7447715001
designator L?, comment 1.8 uH, 7.6 A
WE-PD SMT Shielded Power Inductor, size 1245, 1.8 uH, 7.6 A; Part Number: 7447715001; Rated Current: 7.6 A; Inductance: 1.8 uH; DC Resistance max.: 0.0095 Ohm; Self Resonant Frequency: 76 MHz; ComponentLink1Description: Manufacturer; ComponentLink1URL: http://www.we-online.de; ComponentLink2Description: Datasheet; ComponentLink2URL: https://katalog.we-online.de/pbs/datasheet/7447715001.pdf; Published Date: September 2018; Publisher: Wurth Elektronik; Size: 1245; Operating Temperature: -40 to 125 degC; Mounting Technology: SMT; Packaging: Tape and Reel
footprint WE-PD_1245_Metal base
pins: 1, 2

## 7447715002
designator L?, comment 2.5 uH, 6.8 A
WE-PD SMT Shielded Power Inductor, size 1245, 2.5 uH, 6.8 A; Part Number: 7447715002; Rated Current: 6.8 A; Inductance: 2.5 uH; DC Resistance max.: 0.011 Ohm; Self Resonant Frequency: 50 MHz; ComponentLink1Description: Manufacturer; ComponentLink1URL: http://www.we-online.de; ComponentLink2Description: Datasheet; ComponentLink2URL: https://katalog.we-online.de/pbs/datasheet/7447715002.pdf; Published Date: September 2018; Publisher: Wurth Elektronik; Size: 1245; Operating Temperature: -40 to 125 degC; Mounting Technology: SMT; Packaging: Tape and Reel
footprint WE-PD_1245_Metal base
pins: 1, 2

## 7447715003
designator L?, comment 3.3 uH, 5.9 A
WE-PD SMT Shielded Power Inductor, size 1245, 3.3 uH, 5.9 A; Part Number: 7447715003; Rated Current: 5.9 A; Inductance: 3.3 uH; DC Resistance max.: 0.013 Ohm; Self Resonant Frequency: 40 MHz; ComponentLink1Description: Manufacturer; ComponentLink1URL: http://www.we-online.de; ComponentLink2Description: Datasheet; ComponentLink2URL: https://katalog.we-online.de/pbs/datasheet/7447715003.pdf; Published Date: September 2018; Publisher: Wurth Elektronik; Size: 1245; Operating Temperature: -40 to 125 degC; Mounting Technology: SMT; Packaging: Tape and Reel
footprint WE-PD_1245_Metal base
pins: 1, 2

## 7447715004
designator L?, comment 4.7 uH, 5.2 A
WE-PD SMT Shielded Power Inductor, size 1245, 4.7 uH, 5.2 A; Part Number: 7447715004; Rated Current: 5.2 A; Inductance: 4.7 uH; DC Resistance max.: 0.016 Ohm; Self Resonant Frequency: 37 MHz; ComponentLink1Description: Manufacturer; ComponentLink1URL: http://www.we-online.de; ComponentLink2Description: Datasheet; ComponentLink2URL: https://katalog.we-online.de/pbs/datasheet/7447715004.pdf; Published Date: September 2018; Publisher: Wurth Elektronik; Size: 1245; Operating Temperature: -40 to 125 degC; Mounting Technology: SMT; Packaging: Tape and Reel
footprint WE-PD_1245_Metal base
pins: 1, 2

## 7447715006
designator L?, comment 6.8 uH, 4.3 A
WE-PD SMT Shielded Power Inductor, size 1245, 6.8 uH, 4.3 A; Part Number: 7447715006; Rated Current: 4.3 A; Inductance: 6.8 uH; DC Resistance max.: 0.025 Ohm; Self Resonant Frequency: 27 MHz; ComponentLink1Description: Manufacturer; ComponentLink1URL: http://www.we-online.de; ComponentLink2Description: Datasheet; ComponentLink2URL: https://katalog.we-online.de/pbs/datasheet/7447715006.pdf; Published Date: September 2018; Publisher: Wurth Elektronik; Size: 1245; Operating Temperature: -40 to 125 degC; Mounting Technology: SMT; Packaging: Tape and Reel
footprint WE-PD_1245_Metal base
pins: 1, 2

## 7447715100
designator L?, comment 10 uH, 3.8 A
WE-PD SMT Shielded Power Inductor, size 1245, 10 uH, 3.8 A; Part Number: 7447715100; Rated Current: 3.8 A; Inductance: 10 uH; DC Resistance max.: 0.03 Ohm; Self Resonant Frequency: 22 MHz; ComponentLink1Description: Manufacturer; ComponentLink1URL: http://www.we-online.de; ComponentLink2Description: Datasheet; ComponentLink2URL: https://katalog.we-online.de/pbs/datasheet/7447715100.pdf; Published Date: September 2018; Publisher: Wurth Elektronik; Size: 1245; Operating Temperature: -40 to 125 degC; Mounting Technology: SMT; Packaging: Tape and Reel
footprint WE-PD_1245_Metal base
pins: 1, 2

## 7447715101
designator L?, comment 100 uH, 1.3 A
WE-PD SMT Shielded Power Inductor, size 1245, 100 uH, 1.3 A; Part Number: 7447715101; Rated Current: 1.3 A; Inductance: 100 uH; DC Resistance max.: 0.27 Ohm; Self Resonant Frequency: 6.9 MHz; ComponentLink1Description: Manufacturer; ComponentLink1URL: http://www.we-online.de; ComponentLink2Description: Datasheet; ComponentLink2URL: https://katalog.we-online.de/pbs/datasheet/7447715101.pdf; Published Date: September 2018; Publisher: Wurth Elektronik; Size: 1245; Operating Temperature: -40 to 125 degC; Mounting Technology: SMT; Packaging: Tape and Reel
footprint WE-PD_1245_Metal base
pins: 1, 2

## 7447715120
designator L?, comment 12 uH, 3.5 A
WE-PD SMT Shielded Power Inductor, size 1245, 12 uH, 3.5 A; Part Number: 7447715120; Rated Current: 3.5 A; Inductance: 12 uH; DC Resistance max.: 0.038 Ohm; Self Resonant Frequency: 19 MHz; ComponentLink1Description: Manufacturer; ComponentLink1URL: http://www.we-online.de; ComponentLink2Description: Datasheet; ComponentLink2URL: https://katalog.we-online.de/pbs/datasheet/7447715120.pdf; Published Date: September 2018; Publisher: Wurth Elektronik; Size: 1245; Operating Temperature: -40 to 125 degC; Mounting Technology: SMT; Packaging: Tape and Reel
footprint WE-PD_1245_Metal base
pins: 1, 2

## 7447715180
designator L?, comment 18 uH, 3.2 A
WE-PD SMT Shielded Power Inductor, size 1245, 18 uH, 3.2 A; Part Number: 7447715180; Rated Current: 3.2 A; Inductance: 18 uH; DC Resistance max.: 0.043 Ohm; Self Resonant Frequency: 17 MHz; ComponentLink1Description: Manufacturer; ComponentLink1URL: http://www.we-online.de; ComponentLink2Description: Datasheet; ComponentLink2URL: https://katalog.we-online.de/pbs/datasheet/7447715180.pdf; Published Date: September 2018; Publisher: Wurth Elektronik; Size: 1245; Operating Temperature: -40 to 125 degC; Mounting Technology: SMT; Packaging: Tape and Reel
footprint WE-PD_1245_Metal base
pins: 1, 2

## 7447715220
designator L?, comment 22 uH, 2.9 A
WE-PD SMT Shielded Power Inductor, size 1245, 22 uH, 2.9 A; Part Number: 7447715220; Rated Current: 2.9 A; Inductance: 22 uH; DC Resistance max.: 0.054 Ohm; Self Resonant Frequency: 15.5 MHz; ComponentLink1Description: Manufacturer; ComponentLink1URL: http://www.we-online.de; ComponentLink2Description: Datasheet; ComponentLink2URL: https://katalog.we-online.de/pbs/datasheet/7447715220.pdf; Published Date: September 2018; Publisher: Wurth Elektronik; Size: 1245; Operating Temperature: -40 to 125 degC; Mounting Technology: SMT; Packaging: Tape and Reel
footprint WE-PD_1245_Metal base
pins: 1, 2

## 7447715221
designator L?, comment 220 uH, 0.95 A
WE-PD SMT Shielded Power Inductor, size 1245, 220 uH, 0.95 A; Part Number: 7447715221; Rated Current: 0.95 A; Inductance: 220 uH; DC Resistance max.: 0.48 Ohm; Self Resonant Frequency: 4.7 MHz; ComponentLink1Description: Manufacturer; ComponentLink1URL: http://www.we-online.de; ComponentLink2Description: Datasheet; ComponentLink2URL: https://katalog.we-online.de/pbs/datasheet/7447715221.pdf; Published Date: September 2018; Publisher: Wurth Elektronik; Size: 1245; Operating Temperature: -40 to 125 degC; Mounting Technology: SMT; Packaging: Tape and Reel
footprint WE-PD_1245_Metal base
pins: 1, 2

## 7447715330
designator L?, comment 33 uH, 2.3 A
WE-PD SMT Shielded Power Inductor, size 1245, 33 uH, 2.3 A; Part Number: 7447715330; Rated Current: 2.3 A; Inductance: 33 uH; DC Resistance max.: 0.085 Ohm; Self Resonant Frequency: 13 MHz; ComponentLink1Description: Manufacturer; ComponentLink1URL: http://www.we-online.de; ComponentLink2Description: Datasheet; ComponentLink2URL: https://katalog.we-online.de/pbs/datasheet/7447715330.pdf; Published Date: September 2018; Publisher: Wurth Elektronik; Size: 1245; Operating Temperature: -40 to 125 degC; Mounting Technology: SMT; Packaging: Tape and Reel
footprint WE-PD_1245_Metal base
pins: 1, 2

## 7447715470
designator L?, comment 47 uH, 1.95 A
WE-PD SMT Shielded Power Inductor, size 1245, 47 uH, 1.95 A; Part Number: 7447715470; Rated Current: 1.95 A; Inductance: 47 uH; DC Resistance max.: 0.125 Ohm; Self Resonant Frequency: 9.7 MHz; ComponentLink1Description: Manufacturer; ComponentLink1URL: http://www.we-online.de; ComponentLink2Description: Datasheet; ComponentLink2URL: https://katalog.we-online.de/pbs/datasheet/7447715470.pdf; Published Date: September 2018; Publisher: Wurth Elektronik; Size: 1245; Operating Temperature: -40 to 125 degC; Mounting Technology: SMT; Packaging: Tape and Reel
footprint WE-PD_1245_Metal base
pins: 1, 2

## 7447715906
designator L?, comment 0.6 uH, 9.5 A
WE-PD SMT Shielded Power Inductor, size 1245, 0.6 uH, 9.5 A; Part Number: 7447715906; Rated Current: 9.5 A; Inductance: 0.6 uH; DC Resistance max.: 0.0055 Ohm; Self Resonant Frequency: 160 MHz; ComponentLink1Description: Manufacturer; ComponentLink1URL: http://www.we-online.de; ComponentLink2Description: Datasheet; ComponentLink2URL: https://katalog.we-online.de/pbs/datasheet/7447715906.pdf; Published Date: September 2018; Publisher: Wurth Elektronik; Size: 1245; Operating Temperature: -40 to 125 degC; Mounting Technology: SMT; Packaging: Tape and Reel
footprint WE-PD_1245_Metal base
pins: 1, 2

## 7447715910
designator L?, comment 1 uH, 8.5 A
WE-PD SMT Shielded Power Inductor, size 1245, 1 uH, 8.5 A; Part Number: 7447715910; Rated Current: 8.5 A; Inductance: 1 uH; DC Resistance max.: 0.007 Ohm; Self Resonant Frequency: 98 MHz; ComponentLink1Description: Manufacturer; ComponentLink1URL: http://www.we-online.de; ComponentLink2Description: Datasheet; ComponentLink2URL: https://katalog.we-online.de/pbs/datasheet/7447715910.pdf; Published Date: September 2018; Publisher: Wurth Elektronik; Size: 1245; Operating Temperature: -40 to 125 degC; Mounting Technology: SMT; Packaging: Tape and Reel
footprint WE-PD_1245_Metal base
pins: 1, 2


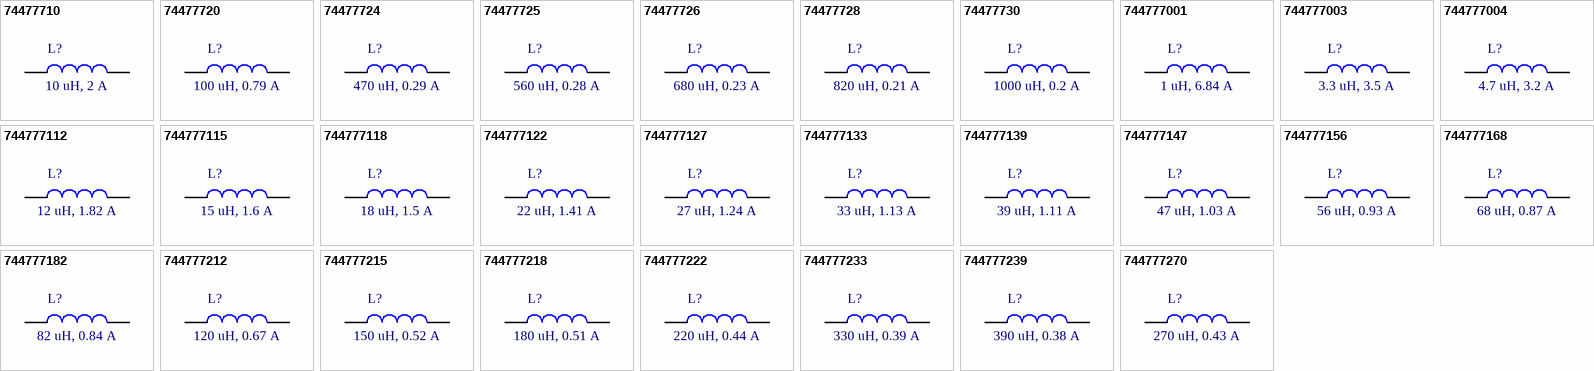
[diagram p7: symbols 74477710 to 744777270]

## 74477710
designator L?, comment 10 uH, 2 A
WE-PD SMT Shielded Power Inductor, size 7345, 10 uH, 2 A; Part Number: 74477710; Rated Current: 2 A; Inductance: 10 uH; DC Resistance max.: 0.049 Ohm; Self Resonant Frequency: 26 MHz; ComponentLink1Description: Manufacturer; ComponentLink1URL: http://www.we-online.de; ComponentLink2Description: Datasheet; ComponentLink2URL: https://katalog.we-online.de/pbs/datasheet/74477710.pdf; Published Date: September 2018; Publisher: Wurth Elektronik; Size: 7345; Operating Temperature: -40 to 125 degC; Mounting Technology: SMT; Packaging: Tape and Reel
footprint WE-PD_7345_Metal base
pins: 1, 2

## 74477720
designator L?, comment 100 uH, 0.79 A
WE-PD SMT Shielded Power Inductor, size 7345, 100 uH, 0.79 A; Part Number: 74477720; Rated Current: 0.79 A; Inductance: 100 uH; DC Resistance max.: 0.61 Ohm; Self Resonant Frequency: 7.5 MHz; ComponentLink1Description: Manufacturer; ComponentLink1URL: http://www.we-online.de; ComponentLink2Description: Datasheet; ComponentLink2URL: https://katalog.we-online.de/pbs/datasheet/74477720.pdf; Published Date: September 2018; Publisher: Wurth Elektronik; Size: 7345; Operating Temperature: -40 to 125 degC; Mounting Technology: SMT; Packaging: Tape and Reel
footprint WE-PD_7345_Metal base
pins: 1, 2

## 74477724
designator L?, comment 470 uH, 0.29 A
WE-PD SMT Shielded Power Inductor, size 7345, 470 uH, 0.29 A; Part Number: 74477724; Rated Current: 0.29 A; Inductance: 470 uH; DC Resistance max.: 3.01 Ohm; Self Resonant Frequency: 3.2 MHz; ComponentLink1Description: Manufacturer; ComponentLink1URL: http://www.we-online.de; ComponentLink2Description: Datasheet; ComponentLink2URL: https://katalog.we-online.de/pbs/datasheet/74477724.pdf; Published Date: September 2018; Publisher: Wurth Elektronik; Size: 7345; Operating Temperature: -40 to 125 degC; Mounting Technology: SMT; Packaging: Tape and Reel
footprint WE-PD_7345_Metal base
pins: 1, 2

## 74477725
designator L?, comment 560 uH, 0.28 A
WE-PD SMT Shielded Power Inductor, size 7345, 560 uH, 0.28 A; Part Number: 74477725; Rated Current: 0.28 A; Inductance: 560 uH; DC Resistance max.: 3.62 Ohm; Self Resonant Frequency: 3 MHz; ComponentLink1Description: Manufacturer; ComponentLink1URL: http://www.we-online.de; ComponentLink2Description: Datasheet; ComponentLink2URL: https://katalog.we-online.de/pbs/datasheet/74477725.pdf; Published Date: September 2018; Publisher: Wurth Elektronik; Size: 7345; Operating Temperature: -40 to 125 degC; Mounting Technology: SMT; Packaging: Tape and Reel
footprint WE-PD_7345_Metal base
pins: 1, 2

## 74477726
designator L?, comment 680 uH, 0.23 A
WE-PD SMT Shielded Power Inductor, size 7345, 680 uH, 0.23 A; Part Number: 74477726; Rated Current: 0.23 A; Inductance: 680 uH; DC Resistance max.: 4.63 Ohm; Self Resonant Frequency: 2.7 MHz; ComponentLink1Description: Manufacturer; ComponentLink1URL: http://www.we-online.de; ComponentLink2Description: Datasheet; ComponentLink2URL: https://katalog.we-online.de/pbs/datasheet/74477726.pdf; Published Date: September 2018; Publisher: Wurth Elektronik; Size: 7345; Operating Temperature: -40 to 125 degC; Mounting Technology: SMT; Packaging: Tape and Reel
footprint WE-PD_7345_Metal base
pins: 1, 2

## 74477728
designator L?, comment 820 uH, 0.21 A
WE-PD SMT Shielded Power Inductor, size 7345, 820 uH, 0.21 A; Part Number: 74477728; Rated Current: 0.21 A; Inductance: 820 uH; DC Resistance max.: 5.2 Ohm; Self Resonant Frequency: 2.5 MHz; ComponentLink1Description: Manufacturer; ComponentLink1URL: http://www.we-online.de; ComponentLink2Description: Datasheet; ComponentLink2URL: https://katalog.we-online.de/pbs/datasheet/74477728.pdf; Published Date: September 2018; Publisher: Wurth Elektronik; Size: 7345; Operating Temperature: -40 to 125 degC; Mounting Technology: SMT; Packaging: Tape and Reel
footprint WE-PD_7345_Metal base
pins: 1, 2

## 74477730
designator L?, comment 1000 uH, 0.2 A
WE-PD SMT Shielded Power Inductor, size 7345, 1000 uH, 0.2 A; Part Number: 74477730; Rated Current: 0.2 A; Inductance: 1000 uH; DC Resistance max.: 6 Ohm; Self Resonant Frequency: 2.2 MHz; ComponentLink1Description: Manufacturer; ComponentLink1URL: http://www.we-online.de; ComponentLink2Description: Datasheet; ComponentLink2URL: https://katalog.we-online.de/pbs/datasheet/74477730.pdf; Published Date: September 2018; Publisher: Wurth Elektronik; Size: 7345; Operating Temperature: -40 to 125 degC; Mounting Technology: SMT; Packaging: Tape and Reel
footprint WE-PD_7345_Metal base
pins: 1, 2

## 744777001
designator L?, comment 1 uH, 6.84 A
WE-PD SMT Shielded Power Inductor, size 7345, 1 uH, 6.84 A; Part Number: 744777001; Rated Current: 6.84 A; Inductance: 1 uH; DC Resistance max.: 0.01 Ohm; Self Resonant Frequency: 100 MHz; ComponentLink1Description: Manufacturer; ComponentLink1URL: http://www.we-online.de; ComponentLink2Description: Datasheet; ComponentLink2URL: https://katalog.we-online.de/pbs/datasheet/744777001.pdf; Published Date: September 2018; Publisher: Wurth Elektronik; Size: 7345; Operating Temperature: -40 to 125 degC; Mounting Technology: SMT; Packaging: Tape and Reel
footprint WE-PD_7345_Metal base
pins: 1, 2